# Altium schematic symbol library soldeerstation.SchLib: 28 symbols
Pins are listed as number, name and electrical type; pins without a type are passive.

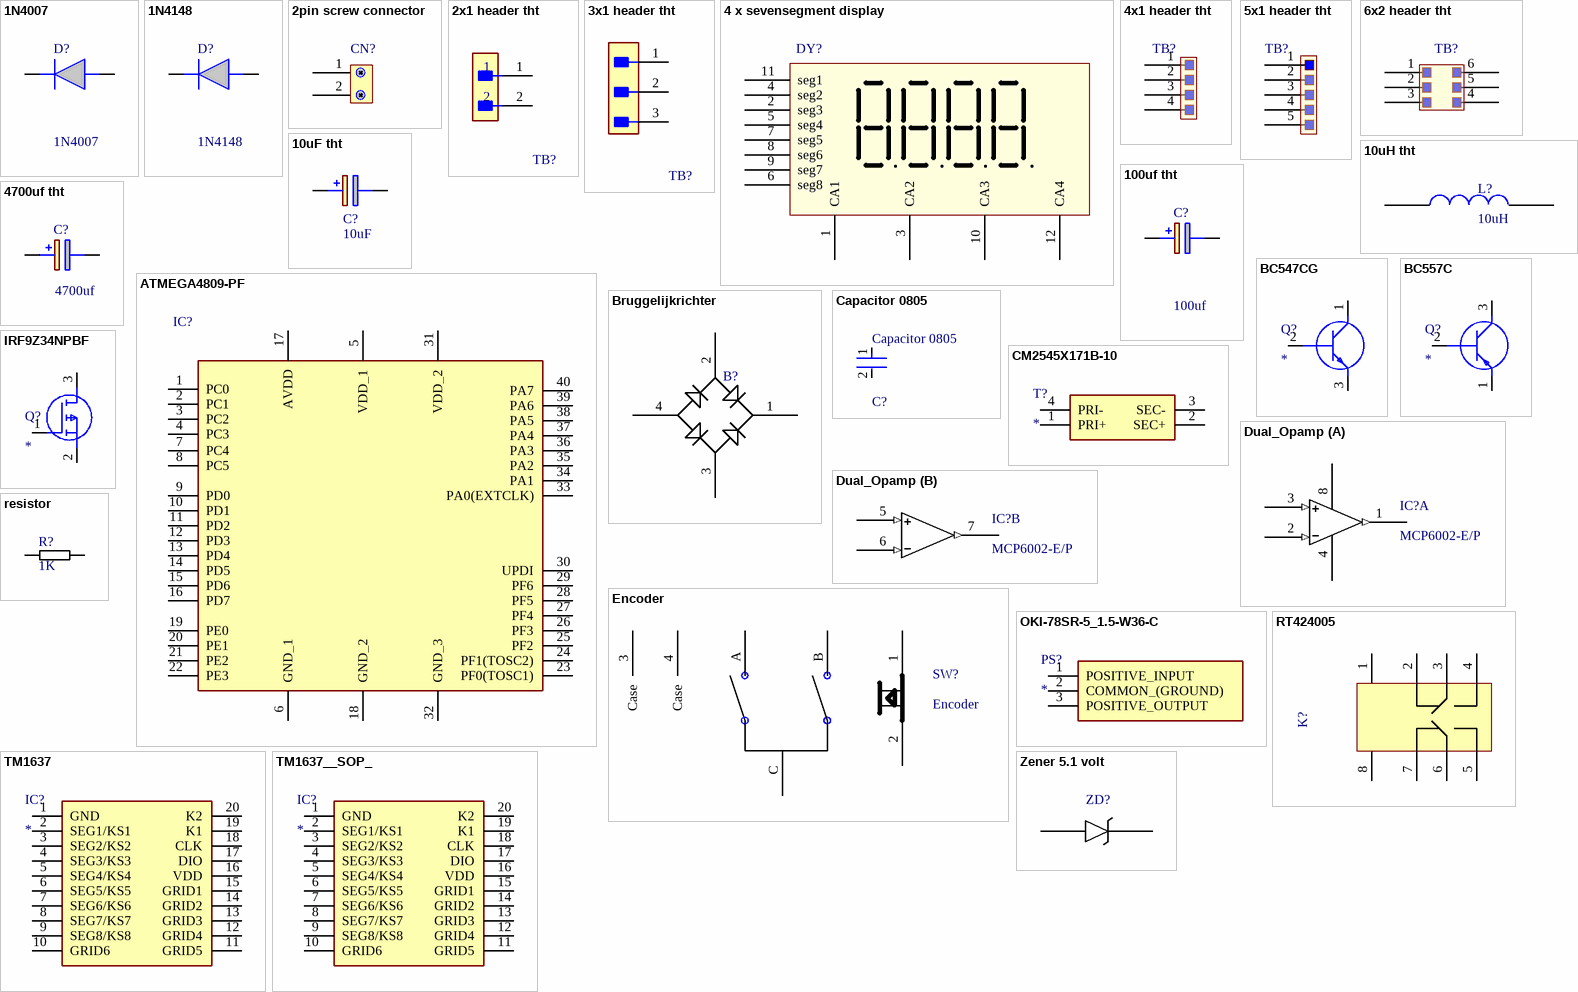
[diagram p0: symbols 1N4007 to Zener 5.1 volt]

## 1N4007
designator D?
Switching diode with a peak reverse voltage of 1 kV, a maximum forward current of 1 A, and a peak repetitive forward current of 5.4 A; Manufacturer_Name: Diotec; Mouser Part Number: 637-1N4007; Mouser Price/Stock: https://www.mouser.co.uk/ProductDetail/Diotec-Semiconductor/1N4007?qs=OlC7AqGiEDmK9mU1uTiCkg%3D%3D; Manufacturer_Part_Number: 1N4007; Datasheet Link: https://diotec.com/tl_files/diotec/files/pdf/datasheets/1n4001.pdf
footprint 1n4007
pins: 1 K, 2 A

## 1N4148
designator D?
Small Signal Diode, 100V 0.3A 2-Pin DO35; Manufacturer_Name: onsemi; Mouser Part Number: 512-1N4148; Mouser Price/Stock: https://www.mouser.co.uk/ProductDetail/onsemi-Fairchild/1N4148?qs=i4Fj9T%2FoRm8RMUhj5DeFQg%3D%3D; Manufacturer_Part_Number: 1N4148; Datasheet Link: *
footprint 1n4148
pins: 1 K, 2 A

## 2pin screw connector
designator CN?  (value not drawn)
footprint 2pin screw connector
pins: 1 29, 2 30

## 2x1 header tht
designator TB?, comment TSW-102-07-L-S  (value not drawn)
CONN HEADER VERT 2POS 2.54MM; Voltage Rating: 550V; Current Rating: 7.6A; Gender: Male; Number of Contacts: 2; Connector Type: Male Pin; Radiation Hardening: No; Orientation: Straight; Contact Plating: Gold; Max Operating Temperature: 125°C; Mount: Through Hole; Package Quantity: 1; Number of Rows: 1; Housing Material: Polyester; RoHS Compliant: Yes; Length: 5.08mm; Max Voltage Rating (AC): 550V; Pitch: 2.54mm; Packaging: Bulk; Depth: 2.54mm; Termination: Solder; Min Operating Temperature: -55°C; Housing Color: Black; Lead Free: Lead Free; Color: Black; Number of Positions: 2; Width: 2.54mm; Max Current Rating: 7.6A; REACH SVHC: No SVHC; Contact Material: Bronze; Contact Mating Length: 0.23inch; Series: TSW; Contact Type: Male Pin
footprint 2x1 header tht
pins: 1, 2

## 3x1 header tht
designator TB?, comment 87224-3  (value not drawn)
CONN HEADER VERT 3POS 2.54MM; Number of Positions: 3; Gasket: No (Without); High Speed Serial Data Connector: No; Current Rating: 3A; Contact Post Length: 0.125inch; PCB Thickness: 1.397mm; PCB Mount Retention: Without; Connector Type: Plug; Approvals: CSA; PCB Mounting Orientation: Vertical; Pitch: 2.54mm; Mating Alignment: No (Without); Housing Color: Black; Contact Gender: Male; Length: 7.21mm; Max Operating Temperature: 105°C; Strain Relief: No (Without); Contact Material: Bronze; Row Spacing: 2.54mm; Series: AMPMODU MOD II; Board Standoff: No (Without); Package Quantity: 520; Radiation Hardening: No; Contact Protection: No (Without); Stabilizers: No (Without); Number of Rows: 1; Contact Mating Length: 8.08mm; Contact Shape: Square; Depth: 2.54mm; Contact Current Rating: 3A; Flammability Rating: UL94 V-0; Packaging: Carton; Number of Contacts: 3; Orientation: Straight; Mount: Through Hole; Keyed: No; Contact Type: Male Pin; Housing Material: Thermoplastic; High Temperature Housing: No; ELV: Compliant; Contact Plating: Gold; Termination: Through Hole; Selectively Loaded: No (Without); Lead Free: Lead Free; Min Operating Temperature: -65°C; Mating Connector Lock: No (Without); Color: Black; RoHS Compliant: Yes
footprint 3x1 header tht
pins: 1, 2, 3

## 4 x sevensegment display
designator DY?  (value not drawn)
footprint 4 x sevensegment display
pins: 1 CA1, 2 seg3, 3 CA2, 4 seg2, 5 seg4, 6 seg8, 7 seg5, 8 seg6, 9 seg7, 10 CA3, 11 seg1, 12 CA4

## 4x1 header tht
designator TB?  (value not drawn)
footprint 4x1 header tht
pins: 1 16, 2 17, 3 18, 4 19

## 5x1 header tht
designator TB?  (value not drawn)
footprint 5x1 header tht
pins: 1 20, 2 16, 3 17, 4 18, 5 19

## 6x2 header tht
designator TB?  (value not drawn)
footprint 6x2 header tht
pins: 1 21, 2 22, 3 23, 4 26, 5 25, 6 24

## 10uF tht
designator C?, comment 10uF
footprint 10uF tht
pins: 1 +, 2 -

## 10uH tht
designator L?, comment 10uH
footprint 10uH tht (10uH)
pins: 1 31, 2 32

## 100uf tht
designator C?, comment 100uf
Aluminum Electrolytic Capacitors - Radial Leaded 50V 100uF 20%-MAL213631101E3; Manufacturer_Name: Vishay; Geometry.Height: 13.5mm; Mouser Part Number: 594-MAL213631101E3; Mouser Price/Stock: https://www.mouser.co.uk/ProductDetail/Vishay-BC-Components/MAL213631101E3?qs=aJI9t0tCUiXeynxOmA%252BOhg%3D%3D; Manufacturer_Part_Number: MAL213631101E3; Datasheet Link: https://componentsearchengine.com/Datasheets/2/MAL213631101E3.pdf
footprint 100uf tht
pins: 1 +, 2 -

## 4700uf tht
designator C?, comment 4700uf
Cap Aluminum Lytic 4700uF 50V 20% (18 X 40mm) Radial 7.5mm 2800mA 2000h 85C Bulk; Manufacturer_Name: Rubycon; Manufacturer_Part_Number: 50PK4700MEFC18X40; Geometry.Height: 41.5mm; Mouser Part Number: 232-50PK4700MEFC18X4; Mouser Price/Stock: https://www.mouser.co.uk/ProductDetail/Rubycon/50PK4700MEFC18X40?qs=T3oQrply3y8fu7oTpkJ7DA%3D%3D; Datasheet Link: http://www.rubycon.co.jp/en/catalog/e_pdfs/aluminum/e_pk.pdf
footprint 4700uf tht (CAPPRD750W80D1850H4150)
pins: 1 +, 2 -

## ATMEGA4809-PF
designator IC?
Integrated Circuit; Manufacturer_Name: Microchip; Manufacturer_Part_Number: ATMEGA4809-PF; Datasheet Link: http://ww1.microchip.com/downloads/en/DeviceDoc/40-pin-Data-Sheet-megaAVR-0-series-DS40002104A.pdf; Height: 6.35mm; Mouser Part Number: 556-ATMEGA4809-PF; Mouser Price/Stock: https://www.mouser.co.uk/ProductDetail/Microchip-Technology-Atmel/ATMEGA4809-PF?qs=T3oQrply3y9UlpZbCygk%252BQ%3D%3D
footprint ATMEGA4809-PF
pins: 1 PC0, 2 PC1, 3 PC2, 4 PC3, 5 VDD_1, 6 GND_1, 7 PC4, 8 PC5, 9 PD0, 10 PD1, 11 PD2, 12 PD3, 13 PD4, 14 PD5, 15 PD6, 16 PD7, 17 AVDD, 18 GND_2, 19 PE0, 20 PE1, 21 PE2, 22 PE3, 23 PF0(TOSC1), 24 PF1(TOSC2), 25 PF2, 26 PF3, 27 PF4, 28 PF5, 29 PF6, 30 UPDI, 31 VDD_2, 32 GND_3, 33 PA0(EXTCLK), 34 PA1, 35 PA2, 36 PA3, 37 PA4, 38 PA5, 39 PA6, 40 PA7

## BC547CG
designator Q?
Transistor BJT NPN; Manufacturer_Name: onsemi; Manufacturer_Part_Number: BC547CG; Datasheet Link: https://www.onsemi.com/pub/Collateral/BC546-D.PDF; Height: 5.33mm; Mouser Part Number: 863-BC547CG; Mouser Price/Stock: https://www.mouser.co.uk/ProductDetail/onsemi/BC547CG?qs=vLkC5FC1VN%252BHx9C8w0tCew%3D%3D; Arrow Part Number: BC547CG; Arrow Price/Stock: https://www.arrow.com/en/products/bc547cg/on-semiconductor?region=nac
footprint BC547CG
pins: 1 C, 2 B, 3 E

## BC557C
designator Q?
Transistor BJT PNP; Manufacturer_Name: NXP; Manufacturer_Part_Number: BC557C; Datasheet Link: http://uk.rs-online.com/web/p/products/1124775; Height: 5.2mm; Mouser Part Number: 771-BC557C; Mouser Price/Stock: https://www.mouser.co.uk/ProductDetail/NXP-Semiconductors/BC557C?qs=84A%2FDAdkstLO1yR4NjQrgg%3D%3D
footprint BC557C
pins: 1 E, 2 B, 3 C

## Bruggelijkrichter
designator B?  (value not drawn)
footprint Bruggelijkrichter (D6KB6U)
pins: 1 13, 2 15, 3 14, 4 12

## Capacitor 0805
designator C?
CAP CER 10000PF 50V X7R 0603; Manufacturer Part Number: CC0603KRX7R9BB103; Manufacturer: YAGEO; Tolerance: 0.1; Material: Ceramic; Temperature Coefficient: 15%; Value: 10 nF; Mouser Description: Multilayer Ceramic Capacitor, CC Series, 0.01 - F, - 10%, X7R, 50 V, 0603 [1608 Metric]; Digikey Description: CAP CER 10000PF 50V X7R 0603; Height: 0.9mm; Category: Cap; Temperature Characteristic: X7R; Footprint Url: http://www.yageo.com/exep/pages/download/literatures/UPY-C_GEN_24.pdf; Lead Free: Yes; Voltage Rating: 50 V; Temperature: -55°C to +125°C; Device Class L3: Ceramic Capacitors; ComponentLink2Description: Datasheet; Voltage: 50 V; Package: CC0603-DA; Octopart: https://octopart.com/cc0603krx7r9bb103-yageo-192938; Automotive: No; Temperature Range High: +125°C; Temperature Range Low: -55°C; RoHS: TRUE; Device Class L1: Passive Components; ComponentLink2URL: http://www.yageo.com/documents/recent/UPY-GPHC_X7R_6.3V-to-50V_18.pdf; Device Class L2: Capacitors; Capacitance: 10 nF
footprint 0805 (Chip Resistor, 2-Leads, Body 2.00x1.25mm, IPC Medium Density)
pins: 1, 2

## CM2545X171B-10
designator T?
Transformer; Manufacturer_Name: Laird Technologies; Manufacturer_Part_Number: CM2545X171B-10; Datasheet Link: https://datasheet.datasheetarchive.com/originals/dk/DKDS-7/122753.pdf; Height: 9.5mm; Mouser Part Number: N/A; Mouser Price/Stock: https://www.mouser.co.uk/ProductDetail/Laird/CM2545X171B-10?qs=PzGy0jfpSMtNfkEypgU65A%3D%3D; Arrow Part Number: CM2545X171B-10; Arrow Price/Stock: https://www.arrow.com/en/products/cm2545x171b-10/laird-technologies
footprint CM2545X171B-10
pins: 1 PRI+, 2 SEC+, 3 SEC-, 4 PRI-

## Dual_Opamp
designator IC?, comment MCP6002-E/P
footprint Dual_Opamp (Opamp)
part A pins: 1 VoutA (out), 2 VinA- (in), 3 VinA+ (in), 4 GND (power), 8 VCC (power)
part B pins: 5 VinB+ (in), 6 VinB- (in), 7 VoutB (out)

## Encoder
designator SW?
footprint Encoder
pins: 1 SW1, 2 SW2, 3 Case, 4 Case, A, B, C 3

## IRF9Z34NPBF
designator Q?
MOSFET (P-Channel); Manufacturer_Name: Infineon; Manufacturer_Part_Number: IRF9Z34NPBF; Datasheet Link: https://www.infineon.com/dgdl/irf9z34npbf.pdf?fileId=5546d462533600a40153561220af1ddd; Height: 4.69mm; Mouser Part Number: 942-IRF9Z34NPBF; Mouser Price/Stock: https://www.mouser.co.uk/ProductDetail/Infineon-Technologies/IRF9Z34NPBF?qs=9%252BKlkBgLFf16a%2FvlD%252BMCtQ%3D%3D; Arrow Part Number: IRF9Z34NPBF; Arrow Price/Stock: https://www.arrow.com/en/products/irf9z34npbf/infineon-technologies-ag?region=nac
footprint IRF9Z34NPBF
pins: 1 G, 2 S, 3 D

## OKI-78SR-5_1.5-W36-C
designator PS?
Power Supply; Manufacturer_Name: Murata Electronics; Manufacturer_Part_Number: OKI-78SR-5/1.5-W36-C; Datasheet Link: https://www.murata.com/products/productdata/8807037992990/oki-78sr.pdf?1583754815000; Height: 16.5mm; Mouser Part Number: 580-OKI78SR5/1.5W36C; Mouser Price/Stock: https://www.mouser.co.uk/ProductDetail/Murata-Power-Solutions/OKI-78SR-5-1.5-W36-C?qs=uJpRT2lXVNXJP%252Bo08dQqJQ%3D%3D; Arrow Part Number: OKI-78SR-5/1.5-W36-C; Arrow Price/Stock: https://www.arrow.com/en/products/oki-78sr-51.5-w36-c/murata-power-solutions?region=nac
footprint OKI-78SR-5_1.5-W36-C
pins: 1 POSITIVE_INPUT, 2 COMMON_(GROUND), 3 POSITIVE_OUTPUT

## resistor
designator R?, comment 1K
Manufacturer: Vishay Dale; Part Number: CRCW08050000Z0EA
footprint 0805 (Chip Resistor, 2-Leads, Body 2.00x1.25mm, IPC Medium Density)
pins: 1, 2
1 alternate drawing of the same symbol

## RT424005
designator K?  (value not drawn)
Relay or Contactor; Manufacturer_Name: TE Connectivity; Manufacturer_Part_Number: RT424005; Datasheet Link: https://www.te.com/commerce/DocumentDelivery/DDEController?Action=showdoc&DocId=Data+Sheet%7FRT2%7F1014%7Fpdf%7FEnglish%7FENG_DS_RT2_1014.pdf%7F5-1393243-9; Mouser Part Number: 655-RT424005; Mouser Price/Stock: https://www.mouser.co.uk/ProductDetail/TE-Connectivity-Schrack/RT424005?qs=KKrrU%252BaSadKRsQcVuAjnsQ%3D%3D; Arrow Part Number: RT424005; Arrow Price/Stock: https://www.arrow.com/en/products/rt424005/te-connectivity?region=nac
footprint RT424005
pins: 1 A1_COIL, 2 12_NC, 3 11_COM, 4 14_NO, 5 24_NO, 6 21_COM, 7 22_NC, 8 A2_COIL

## TM1637
designator IC?
Integrated Circuit; Manufacturer_Name: TITAN MICRO ELECTRONICS; Manufacturer_Part_Number: TM1637; Height: 4.31mm
footprint TM1637
pins: 1 GND, 2 SEG1/KS1, 3 SEG2/KS2, 4 SEG3/KS3, 5 SEG4/KS4, 6 SEG5/KS5, 7 SEG6/KS6, 8 SEG7/KS7, 9 SEG8/KS8, 10 GRID6, 11 GRID5, 12 GRID4, 13 GRID3, 14 GRID2, 15 GRID1, 16 VDD, 17 DIO, 18 CLK, 19 K1, 20 K2

## TM1637__SOP_
designator IC?
Integrated Circuit; Manufacturer_Name: TITAN MICRO ELECTRONICS; Manufacturer_Part_Number: TM1637 (SOP); Datasheet Link: https://www.mcielectronics.cl/website_MCI/static/documents/Datasheet_TM1637.pdf; Height: 2.8mm
footprint sop
pins: 1 GND, 2 SEG1/KS1, 3 SEG2/KS2, 4 SEG3/KS3, 5 SEG4/KS4, 6 SEG5/KS5, 7 SEG6/KS6, 8 SEG7/KS7, 9 SEG8/KS8, 10 GRID6, 11 GRID5, 12 GRID4, 13 GRID3, 14 GRID2, 15 GRID1, 16 VDD, 17 DIO, 18 CLK, 19 K1, 20 K2

## Zener 5.1 volt
designator ZD?  (value not drawn)
footprint 1n4007
pins: 1 28, 2 27